# EAGLE library part PCIE-M.2-KEY-M-* (library PCI Express)
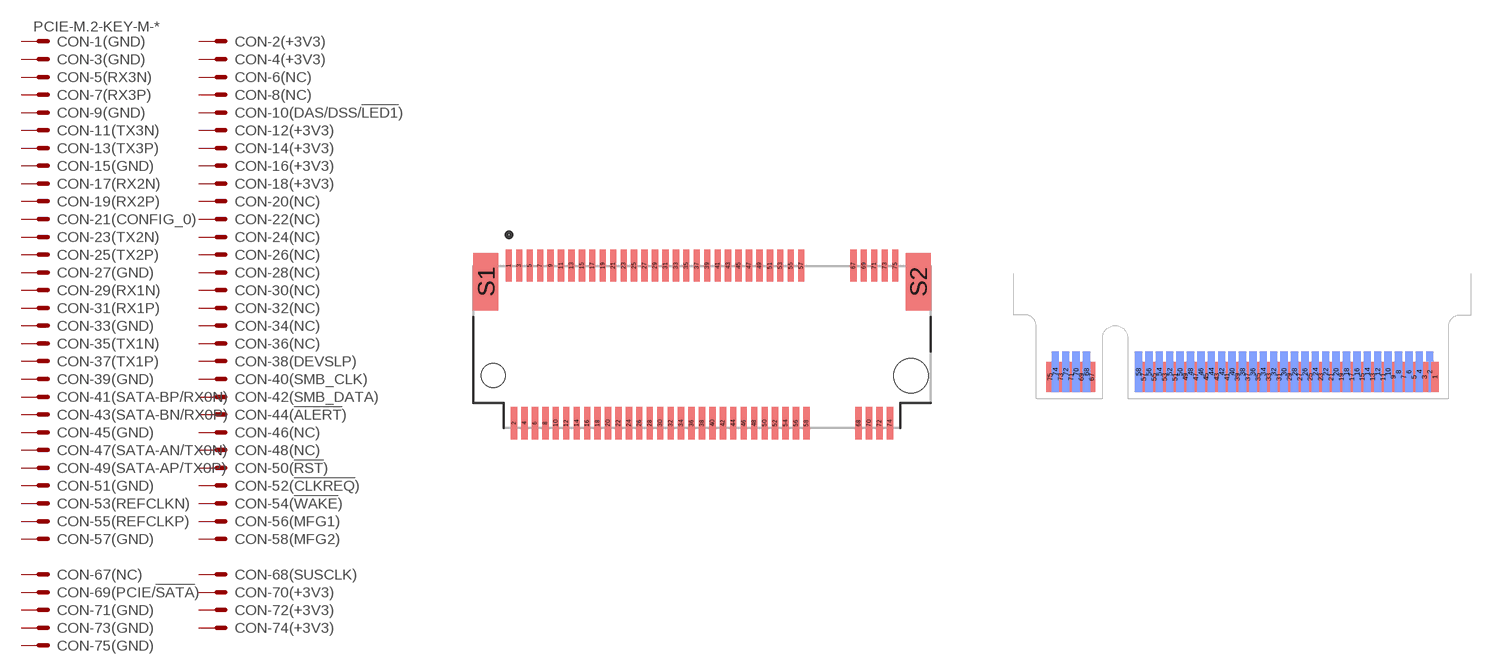
[diagram p2: symbol with the pads of PCIE-M.2-KEY-M-SKT; footprints PCIE-M.2-KEY-M-SKT, PCIE-M.2-KEY-M-EDGE]

Designator prefix CON; gates -1(GND)=KV -2(+3V3)=K -3(GND)=K -5(RX3N)=K -7(RX3P)=K -9(GND)=K -11(TX3N)=K -13(TX3P)=K -15(GND)=K -4(+3V3)=K -6(NC)=K -8(NC)=K -10(DAS/DSS/!LED1!)=K -12(+3V3)=K -14(+3V3)=K -16(+3V3)=K -18(+3V3)=K -20(NC)=K -22(NC)=K -17(RX2N)=K -19(RX2P)=K -21(CONFIG_0)=K -23(TX2N)=K -25(TX2P)=K -27(GND)=K -29(RX1N)=K -31(RX1P)=K -33(GND)=K -35(TX1N)=K -24(NC)=K -26(NC)=K -28(NC)=K -30(NC)=K -32(NC)=K -34(NC)=K -36(NC)=K -37(TX1P)=K -39(GND)=K -38(DEVSLP)=K -40(SMB_CLK)=K -42(SMB_DATA)=K -44(!ALERT!)=K -46(NC)=K -50(!RST!)=K -48(NC)=K -52(!CLKREQ!)=K -54(!WAKE!)=K -56(MFG1)=K -58(MFG2)=K -68(SUSCLK)=K -70(+3V3)=K -72(+3V3)=K -74(+3V3)=K -57(GND)=K -67(NC)=K -69(PCIE/!SATA!)=K -71(GND)=K -73(GND)=K -75(GND)=K -41(SATA-BP/RX0N)=K -43(SATA-BN/RX0P)=K -45(GND)=K -47(SATA-AN/TX0N)=K -49(SATA-AP/TX0P)=K -51(GND)=K -53(REFCLKN)=K -55(REFCLKP)=K

## PCIE-M.2-KEY-M-SKT  [PCIE-M.2-KEY-M-SKT]
1  -1(GND):S  pas
2  -2(+3V3):S  pas
3  -3(GND):S  pas
4  -4(+3V3):S  pas
5  -5(RX3N):S  pas
6  -6(NC):S  pas
7  -7(RX3P):S  pas
8  -8(NC):S  pas
9  -9(GND):S  pas
10  -10(DAS/DSS/!LED1!):S  pas
11  -11(TX3N):S  pas
12  -12(+3V3):S  pas
13  -13(TX3P):S  pas
14  -14(+3V3):S  pas
15  -15(GND):S  pas
16  -16(+3V3):S  pas
17  -17(RX2N):S  pas
18  -18(+3V3):S  pas
19  -19(RX2P):S  pas
20  -20(NC):S  pas
21  -21(CONFIG_0):S  pas
22  -22(NC):S  pas
23  -23(TX2N):S  pas
24  -24(NC):S  pas
25  -25(TX2P):S  pas
26  -26(NC):S  pas
27  -27(GND):S  pas
28  -28(NC):S  pas
29  -29(RX1N):S  pas
30  -30(NC):S  pas
31  -31(RX1P):S  pas
32  -32(NC):S  pas
33  -33(GND):S  pas
34  -34(NC):S  pas
35  -35(TX1N):S  pas
36  -36(NC):S  pas
37  -37(TX1P):S  pas
38  -38(DEVSLP):S  pas
39  -39(GND):S  pas
40  -40(SMB_CLK):S  pas
41  -41(SATA-BP/RX0N):S  pas
42  -42(SMB_DATA):S  pas
43  -43(SATA-BN/RX0P):S  pas
44  -44(!ALERT!):S  pas
45  -45(GND):S  pas
46  -46(NC):S  pas
47  -47(SATA-AN/TX0N):S  pas
48  -48(NC):S  pas
49  -49(SATA-AP/TX0P):S  pas
50  -50(!RST!):S  pas
51  -51(GND):S  pas
52  -52(!CLKREQ!):S  pas
53  -53(REFCLKN):S  pas
54  -54(!WAKE!):S  pas
55  -55(REFCLKP):S  pas
56  -56(MFG1):S  pas
57  -57(GND):S  pas
58  -58(MFG2):S  pas
67  -67(NC):S  pas
68  -68(SUSCLK):S  pas
69  -69(PCIE/!SATA!):S  pas
70  -70(+3V3):S  pas
71  -71(GND):S  pas
72  -72(+3V3):S  pas
73  -73(GND):S  pas
74  -74(+3V3):S  pas
75  -75(GND):S  pas
S1  -3(GND):S  pas
S2  -3(GND):S  pas

## PCIE-M.2-KEY-M-EDGE  [PCIE-M.2-KEY-M-EDGE]
1  -1(GND):S  pas
2  -2(+3V3):S  pas
3  -3(GND):S  pas
4  -4(+3V3):S  pas
5  -5(RX3N):S  pas
6  -6(NC):S  pas
7  -7(RX3P):S  pas
8  -8(NC):S  pas
9  -9(GND):S  pas
10  -10(DAS/DSS/!LED1!):S  pas
11  -11(TX3N):S  pas
12  -12(+3V3):S  pas
13  -13(TX3P):S  pas
14  -14(+3V3):S  pas
15  -15(GND):S  pas
16  -16(+3V3):S  pas
17  -17(RX2N):S  pas
18  -18(+3V3):S  pas
19  -19(RX2P):S  pas
20  -20(NC):S  pas
21  -21(CONFIG_0):S  pas
22  -22(NC):S  pas
23  -23(TX2N):S  pas
24  -24(NC):S  pas
25  -25(TX2P):S  pas
26  -26(NC):S  pas
27  -27(GND):S  pas
28  -28(NC):S  pas
29  -29(RX1N):S  pas
30  -30(NC):S  pas
31  -31(RX1P):S  pas
32  -32(NC):S  pas
33  -33(GND):S  pas
34  -34(NC):S  pas
35  -35(TX1N):S  pas
36  -36(NC):S  pas
37  -37(TX1P):S  pas
38  -38(DEVSLP):S  pas
39  -39(GND):S  pas
40  -40(SMB_CLK):S  pas
41  -41(SATA-BP/RX0N):S  pas
42  -42(SMB_DATA):S  pas
43  -43(SATA-BN/RX0P):S  pas
44  -44(!ALERT!):S  pas
45  -45(GND):S  pas
46  -46(NC):S  pas
47  -47(SATA-AN/TX0N):S  pas
48  -48(NC):S  pas
49  -49(SATA-AP/TX0P):S  pas
50  -50(!RST!):S  pas
51  -51(GND):S  pas
52  -52(!CLKREQ!):S  pas
53  -53(REFCLKN):S  pas
54  -54(!WAKE!):S  pas
55  -55(REFCLKP):S  pas
56  -56(MFG1):S  pas
57  -57(GND):S  pas
58  -58(MFG2):S  pas
67  -67(NC):S  pas
68  -68(SUSCLK):S  pas
69  -69(PCIE/!SATA!):S  pas
70  -70(+3V3):S  pas
71  -71(GND):S  pas
72  -72(+3V3):S  pas
73  -73(GND):S  pas
74  -74(+3V3):S  pas
75  -75(GND):S  pas

## Footprint PCIE-M.2-KEY-M-SKT (pad centres in mm)
smd 0.3 x 1.55: 1 -9.25,5.275; 2 -9,-2.275; 3 -8.75,5.275; 4 -8.5,-2.275; 5 -8.25,5.275; 6 -8,-2.275; 7 -7.75,5.275; 8 -7.5,-2.275; 9 -7.25,5.275; 10 -7,-2.275; 11 -6.75,5.275; 12 -6.5,-2.275; 13 -6.25,5.275; 14 -6,-2.275; 15 -5.75,5.275; 16 -5.5,-2.275; 17 -5.25,5.275; 18 -5,-2.275; 19 -4.75,5.275; 20 -4.5,-2.275; 21 -4.25,5.275; 22 -4,-2.275; 23 -3.75,5.275; 24 -3.5,-2.275; 25 -3.25,5.275; 26 -3,-2.275; 27 -2.75,5.275; 28 -2.5,-2.275; 29 -2.25,5.275; 30 -2,-2.275; 31 -1.75,5.275; 32 -1.5,-2.275; 33 -1.25,5.275; 34 -1,-2.275; 35 -0.75,5.275; 36 -0.5,-2.275; 37 -0.25,5.275; 38 0,-2.275; 39 0.25,5.275; 40 0.5,-2.275; 41 0.75,5.275; 42 1,-2.275; 43 1.25,5.275; 44 1.5,-2.275; 45 1.75,5.275; 46 2,-2.275; 47 2.25,5.275; 48 2.5,-2.275; 49 2.75,5.275; 50 3,-2.275; 51 3.25,5.275; 52 3.5,-2.275; 53 3.75,5.275; 54 4,-2.275; 55 4.25,5.275; 56 4.5,-2.275; 57 4.75,5.275; 58 5,-2.275; 67 7.25,5.275; 68 7.5,-2.275; 69 7.75,5.275; 70 8,-2.275; 71 8.25,5.275; 72 8.5,-2.275; 73 8.75,5.275; 74 9,-2.275; 75 9.25,5.275
smd 1.2 x 2.75: S1 -10.35,4.5; S2 10.35,4.5
hole 1.15 at -10,0
hole 1.65 at 10,0

## Footprint PCIE-M.2-KEY-M-EDGE (pad centres in mm)
smd 0.35 x 1.45: 1 9.25,1.025; 3 8.75,1.025; 5 8.25,1.025; 7 7.75,1.025; 9 7.25,1.025; 11 6.75,1.025; 13 6.25,1.025; 15 5.75,1.025; 17 5.25,1.025; 19 4.75,1.025; 21 4.25,1.025; 23 3.75,1.025; 25 3.25,1.025; 27 2.75,1.025; 29 2.25,1.025; 31 1.75,1.025; 33 1.25,1.025; 35 0.75,1.025; 37 0.25,1.025; 39 -0.25,1.025; 41 -0.75,1.025; 43 -1.25,1.025; 45 -1.75,1.025; 47 -2.25,1.025; 49 -2.75,1.025; 51 -3.25,1.025; 53 -3.75,1.025; 55 -4.25,1.025; 57 -4.75,1.025; 67 -7.25,1.025; 69 -7.75,1.025; 71 -8.25,1.025; 73 -8.75,1.025; 75 -9.25,1.025
smd 0.35 x 1.95 bottom: 2 9,1.275; 4 8.5,1.275; 6 8,1.275; 8 7.5,1.275; 10 7,1.275; 12 6.5,1.275; 14 6,1.275; 16 5.5,1.275; 18 5,1.275; 20 4.5,1.275; 22 4,1.275; 24 3.5,1.275; 26 3,1.275; 28 2.5,1.275; 30 2,1.275; 32 1.5,1.275; 34 1,1.275; 36 0.5,1.275; 38 0,1.275; 40 -0.5,1.275; 42 -1,1.275; 44 -1.5,1.275; 46 -2,1.275; 48 -2.5,1.275; 50 -3,1.275; 52 -3.5,1.275; 54 -4,1.275; 56 -4.5,1.275; 58 -5,1.275; 68 -7.5,1.275; 70 -8,1.275; 72 -8.5,1.275; 74 -9,1.275